# Altium footprint library CP2102-GM.PcbLib: 3 footprints
Each footprint in its own frame and in the unit in brackets; x right, y up, seen from the top. Pads: shape width x height; smd on the part's side, far side on the other; paste and mask are expansions set on the pad; w line width, h text height; cw(c..) or ccw(c..) is an arc to the next point about the centre after c.
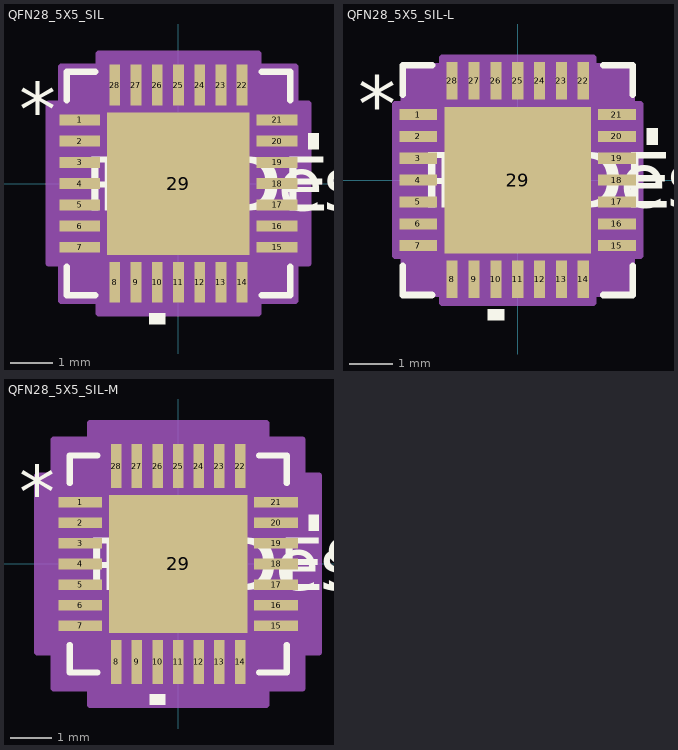
[diagram p0: the footprints below, top view; thin cyan lines are the x and y axes]

## QFN28_5X5_SIL [mm]
pads (29):
  rect 0.96x0.255 smd paste+0 mask+0: 1(-2.322,1.5) 2(-2.322,1) 3(-2.322,0.5) 4(-2.322,0) 5(-2.322,-0.5) 6(-2.322,-1) 7(-2.322,-1.5) 15(2.322,-1.5) 16(2.322,-1) 17(2.322,-0.5) 18(2.322,0) 19(2.322,0.5) 20(2.322,1) 21(2.322,1.5)
  rect 0.255x0.96 smd paste+0 mask+0: 8(-1.5,-2.322) 9(-1,-2.322) 10(-0.5,-2.322) 11(0,-2.322) 12(0.5,-2.322) 13(1,-2.322) 14(1.5,-2.322) 22(1.5,2.322) 23(1,2.322) 24(0.5,2.322) 25(0,2.322) 26(-0.5,2.322) 27(-1,2.322) 28(-1.5,2.322)
  rect 3.353x3.353 smd paste-1.676 mask+0: 29(0,0)
Top Overlay:
  region: -0.309,-3.056 -0.69,-3.056 -0.69,-3.31 -0.309,-3.31
  region: 3.056,1.191 3.31,1.191 3.31,0.81 3.056,0.81
  lines w0.152: -2.629,-1.96 -2.629,-2.629 -1.96,-2.629 ; -2.629,1.96 -2.629,2.629 -1.96,2.629 ; 1.96,-2.629 2.629,-2.629 2.629,-1.96 ; 1.96,2.629 2.629,2.629 2.629,1.96
  text "*" at -3.754,1.115 h1.27
  text "RefDes" at -1.905,-0.635 h1.27
  text "REFDES" at -2.222,-0.635 h1.27
Top Paste:
  region: -0.1,1.576 -1.576,1.576 -1.576,0.1 -0.1,0.1
  region: -0.1,-0.1 -1.576,-0.1 -1.576,-1.576 -0.1,-1.576
  region: 1.576,1.576 0.1,1.576 0.1,0.1 1.576,0.1
  region: 1.576,-0.1 0.1,-0.1 0.1,-1.576 1.576,-1.576
Mechanical 13:
  lines w0.025: -2.502,1.232 -1.232,2.502 ; -2.502,-2.502 2.502,-2.502 ; -2.502,-2.502 -2.502,2.502 ; -2.502,-2.502 -2.502,-2.502 ; -2.502,-1.652 -2.502,-1.348 ; -2.502,-1.652 -2.502,-1.348 ; -2.502,-1.652 -2.502,-1.652 ; -2.502,-1.348 -2.502,-1.348 ; -2.502,-1.152 -2.502,-0.848 ; -2.502,-1.152 -2.502,-0.848 ; -2.502,-1.152 -2.502,-1.152 ; -2.502,-0.848 -2.502,-0.848 ; -2.502,-0.652 -2.502,-0.348 ; -2.502,-0.652 -2.502,-0.348 ; -2.502,-0.652 -2.502,-0.652 ; -2.502,-0.348 -2.502,-0.348 ; -2.502,-0.152 -2.502,0.152 ; -2.502,-0.152 -2.502,0.152 ; -2.502,-0.152 -2.502,-0.152 ; -2.502,0.152 -2.502,0.152 ; -2.502,0.348 -2.502,0.652 ; -2.502,0.348 -2.502,0.652 ; -2.502,0.348 -2.502,0.348 ; -2.502,0.652 -2.502,0.652 ; -2.502,0.848 -2.502,1.152 ; -2.502,0.848 -2.502,1.152 ; -2.502,0.848 -2.502,0.848 ; -2.502,1.152 -2.502,1.152 ; -2.502,1.348 -2.502,1.652 ; -2.502,1.348 -2.502,1.652 ; -2.502,1.348 -2.502,1.348 ; -2.502,1.652 -2.502,1.652 ; -2.502,2.502 2.502,2.502 ; -2.502,2.502 -2.502,2.502 ; -1.652,-2.502 -1.348,-2.502 ; -1.652,-2.502 -1.652,-2.502 ; -1.652,-2.502 -1.348,-2.502 ; -1.652,2.502 -1.348,2.502 ; -1.652,2.502 -1.348,2.502 ; -1.652,2.502 -1.652,2.502 ; -1.348,-2.502 -1.348,-2.502 ; -1.348,2.502 -1.348,2.502 ; -1.152,-2.502 -0.848,-2.502 ; -1.152,-2.502 -1.152,-2.502 ; -1.152,-2.502 -0.848,-2.502 ; -1.152,2.502 -0.848,2.502 ; -1.152,2.502 -0.848,2.502 ; -1.152,2.502 -1.152,2.502 ; -0.848,-2.502 -0.848,-2.502 ; -0.848,2.502 -0.848,2.502 ; -0.652,-2.502 -0.348,-2.502 ; -0.652,-2.502 -0.652,-2.502 ; -0.652,-2.502 -0.348,-2.502 ; -0.652,2.502 -0.348,2.502 ; -0.652,2.502 -0.348,2.502 ; -0.652,2.502 -0.652,2.502 ; -0.348,-2.502 -0.348,-2.502 ; -0.348,2.502 -0.348,2.502 ; -0.152,-2.502 0.152,-2.502 ; -0.152,-2.502 -0.152,-2.502 ; -0.152,-2.502 0.152,-2.502 ; -0.152,2.502 0.152,2.502 ; -0.152,2.502 0.152,2.502 ; -0.152,2.502 -0.152,2.502 ; 0.152,-2.502 0.152,-2.502 ; 0.152,2.502 0.152,2.502 ; 0.348,-2.502 0.652,-2.502 ; 0.348,-2.502 0.348,-2.502 ; 0.348,-2.502 0.652,-2.502 ; 0.348,2.502 0.652,2.502 ; 0.348,2.502 0.652,2.502 ; 0.348,2.502 0.348,2.502 ; 0.652,-2.502 0.652,-2.502 ; 0.652,2.502 0.652,2.502 ; 0.848,-2.502 1.152,-2.502 ; 0.848,-2.502 0.848,-2.502 ; 0.848,-2.502 1.152,-2.502 ; 0.848,2.502 1.152,2.502 ; 0.848,2.502 1.152,2.502 ; 0.848,2.502 0.848,2.502 ; 1.152,-2.502 1.152,-2.502 ; 1.152,2.502 1.152,2.502 ; 1.348,-2.502 1.652,-2.502 ; 1.348,-2.502 1.348,-2.502 ; 1.348,-2.502 1.652,-2.502 ; 1.348,2.502 1.652,2.502 ; 1.348,2.502 1.652,2.502 ; 1.348,2.502 1.348,2.502 ; 1.652,-2.502 1.652,-2.502 ; 1.652,2.502 1.652,2.502 ; 2.502,-2.502 2.502,-2.502 ; 2.502,-2.502 2.502,2.502 ; 2.502,-1.652 2.502,-1.348 ; 2.502,-1.652 2.502,-1.652 ; 2.502,-1.652 2.502,-1.348 ; 2.502,-1.348 2.502,-1.348 ; 2.502,-1.152 2.502,-0.848 ; 2.502,-1.152 2.502,-1.152 ; 2.502,-1.152 2.502,-0.848 ; 2.502,-0.848 2.502,-0.848 ; 2.502,-0.652 2.502,-0.348 ; 2.502,-0.652 2.502,-0.652 ; 2.502,-0.652 2.502,-0.348 ; 2.502,-0.348 2.502,-0.348 ; 2.502,-0.152 2.502,0.152 ; 2.502,-0.152 2.502,-0.152 ; 2.502,-0.152 2.502,0.152 ; 2.502,0.152 2.502,0.152 ; 2.502,0.348 2.502,0.652 ; 2.502,0.348 2.502,0.348 ; 2.502,0.348 2.502,0.652 ; 2.502,0.652 2.502,0.652 ; 2.502,0.848 2.502,1.152 ; 2.502,0.848 2.502,0.848 ; 2.502,0.848 2.502,1.152 ; 2.502,1.152 2.502,1.152 ; 2.502,1.348 2.502,1.652 ; 2.502,1.348 2.502,1.348 ; 2.502,1.348 2.502,1.652 ; 2.502,1.652 2.502,1.652 ; 2.502,2.502 2.502,2.502
  text "*" at -2.159,1.115 h1.27
  text "RefDes2" at -2.222,-0.635 h1.27
Mechanical 15:
  region: -1.881,-2.756 -2.756,-2.756 -2.756,-1.881 -3.056,-1.881 -3.056,1.881 -2.756,1.881 -2.756,2.756 -1.881,2.756 -1.881,3.056 1.881,3.056 1.881,2.756 2.756,2.756 2.756,1.881 3.056,1.881 3.056,-1.881 2.756,-1.881 2.756,-2.756 1.881,-2.756 1.881,-3.056 -1.881,-3.056
  lines w0.152: -3.056,-1.881 -2.756,-1.881 -2.756,-2.756 -1.881,-2.756 -1.881,-3.056 1.881,-3.056 1.881,-2.756 2.756,-2.756 2.756,-1.881 3.056,-1.881 3.056,1.881 2.756,1.881 2.756,2.756 1.881,2.756 1.881,3.056 -1.881,3.056 -1.881,2.756 -2.756,2.756 -2.756,1.881 -3.056,1.881 -3.056,-1.881
3D body "QFN28_5X5_SIL.step": height 0.99, standoff 0, extent -2.502,-2.502 2.502,2.502

## QFN28_5X5_SIL-L [mm]
pads (29):
  rect 0.86x0.255 smd paste+0 mask+0: 1(-2.272,1.5) 2(-2.272,1) 3(-2.272,0.5) 4(-2.272,0) 5(-2.272,-0.5) 6(-2.272,-1) 7(-2.272,-1.5) 15(2.272,-1.5) 16(2.272,-1) 17(2.272,-0.5) 18(2.272,0) 19(2.272,0.5) 20(2.272,1) 21(2.272,1.5)
  rect 0.255x0.86 smd paste+0 mask+0: 8(-1.5,-2.272) 9(-1,-2.272) 10(-0.5,-2.272) 11(0,-2.272) 12(0.5,-2.272) 13(1,-2.272) 14(1.5,-2.272) 22(1.5,2.272) 23(1,2.272) 24(0.5,2.272) 25(0,2.272) 26(-0.5,2.272) 27(-1,2.272) 28(-1.5,2.272)
  rect 3.353x3.353 smd paste-1.676 mask+0: 29(0,0)
Top Overlay:
  region: -0.309,-2.956 -0.69,-2.956 -0.69,-3.21 -0.309,-3.21
  region: 2.956,1.191 3.21,1.191 3.21,0.81 2.956,0.81
  lines w0.152: -2.629,-1.96 -2.629,-2.629 -1.96,-2.629 ; -2.629,1.96 -2.629,2.629 -1.96,2.629 ; 1.96,-2.629 2.629,-2.629 2.629,-1.96 ; 1.96,2.629 2.629,2.629 2.629,1.96
  text "*" at -3.654,1.115 h1.27
  text "RefDes" at -1.905,-0.635 h1.27
  text "REFDES" at -2.222,-0.635 h1.27
Top Paste:
  region: -0.1,1.576 -1.576,1.576 -1.576,0.1 -0.1,0.1
  region: -0.1,-0.1 -1.576,-0.1 -1.576,-1.576 -0.1,-1.576
  region: 1.576,1.576 0.1,1.576 0.1,0.1 1.576,0.1
  region: 1.576,-0.1 0.1,-0.1 0.1,-1.576 1.576,-1.576
Mechanical 13:
  lines w0.025: -2.502,1.232 -1.232,2.502 ; -2.502,-2.502 2.502,-2.502 ; -2.502,-2.502 -2.502,2.502 ; -2.502,-2.502 -2.502,-2.502 ; -2.502,-1.652 -2.502,-1.348 ; -2.502,-1.652 -2.502,-1.348 ; -2.502,-1.652 -2.502,-1.652 ; -2.502,-1.348 -2.502,-1.348 ; -2.502,-1.152 -2.502,-0.848 ; -2.502,-1.152 -2.502,-0.848 ; -2.502,-1.152 -2.502,-1.152 ; -2.502,-0.848 -2.502,-0.848 ; -2.502,-0.652 -2.502,-0.348 ; -2.502,-0.652 -2.502,-0.348 ; -2.502,-0.652 -2.502,-0.652 ; -2.502,-0.348 -2.502,-0.348 ; -2.502,-0.152 -2.502,0.152 ; -2.502,-0.152 -2.502,0.152 ; -2.502,-0.152 -2.502,-0.152 ; -2.502,0.152 -2.502,0.152 ; -2.502,0.348 -2.502,0.652 ; -2.502,0.348 -2.502,0.652 ; -2.502,0.348 -2.502,0.348 ; -2.502,0.652 -2.502,0.652 ; -2.502,0.848 -2.502,1.152 ; -2.502,0.848 -2.502,1.152 ; -2.502,0.848 -2.502,0.848 ; -2.502,1.152 -2.502,1.152 ; -2.502,1.348 -2.502,1.652 ; -2.502,1.348 -2.502,1.652 ; -2.502,1.348 -2.502,1.348 ; -2.502,1.652 -2.502,1.652 ; -2.502,2.502 2.502,2.502 ; -2.502,2.502 -2.502,2.502 ; -1.652,-2.502 -1.348,-2.502 ; -1.652,-2.502 -1.652,-2.502 ; -1.652,-2.502 -1.348,-2.502 ; -1.652,2.502 -1.348,2.502 ; -1.652,2.502 -1.348,2.502 ; -1.652,2.502 -1.652,2.502 ; -1.348,-2.502 -1.348,-2.502 ; -1.348,2.502 -1.348,2.502 ; -1.152,-2.502 -0.848,-2.502 ; -1.152,-2.502 -1.152,-2.502 ; -1.152,-2.502 -0.848,-2.502 ; -1.152,2.502 -0.848,2.502 ; -1.152,2.502 -0.848,2.502 ; -1.152,2.502 -1.152,2.502 ; -0.848,-2.502 -0.848,-2.502 ; -0.848,2.502 -0.848,2.502 ; -0.652,-2.502 -0.348,-2.502 ; -0.652,-2.502 -0.652,-2.502 ; -0.652,-2.502 -0.348,-2.502 ; -0.652,2.502 -0.348,2.502 ; -0.652,2.502 -0.348,2.502 ; -0.652,2.502 -0.652,2.502 ; -0.348,-2.502 -0.348,-2.502 ; -0.348,2.502 -0.348,2.502 ; -0.152,-2.502 0.152,-2.502 ; -0.152,-2.502 -0.152,-2.502 ; -0.152,-2.502 0.152,-2.502 ; -0.152,2.502 0.152,2.502 ; -0.152,2.502 0.152,2.502 ; -0.152,2.502 -0.152,2.502 ; 0.152,-2.502 0.152,-2.502 ; 0.152,2.502 0.152,2.502 ; 0.348,-2.502 0.652,-2.502 ; 0.348,-2.502 0.348,-2.502 ; 0.348,-2.502 0.652,-2.502 ; 0.348,2.502 0.652,2.502 ; 0.348,2.502 0.652,2.502 ; 0.348,2.502 0.348,2.502 ; 0.652,-2.502 0.652,-2.502 ; 0.652,2.502 0.652,2.502 ; 0.848,-2.502 1.152,-2.502 ; 0.848,-2.502 0.848,-2.502 ; 0.848,-2.502 1.152,-2.502 ; 0.848,2.502 1.152,2.502 ; 0.848,2.502 1.152,2.502 ; 0.848,2.502 0.848,2.502 ; 1.152,-2.502 1.152,-2.502 ; 1.152,2.502 1.152,2.502 ; 1.348,-2.502 1.652,-2.502 ; 1.348,-2.502 1.348,-2.502 ; 1.348,-2.502 1.652,-2.502 ; 1.348,2.502 1.652,2.502 ; 1.348,2.502 1.652,2.502 ; 1.348,2.502 1.348,2.502 ; 1.652,-2.502 1.652,-2.502 ; 1.652,2.502 1.652,2.502 ; 2.502,-2.502 2.502,-2.502 ; 2.502,-2.502 2.502,2.502 ; 2.502,-1.652 2.502,-1.348 ; 2.502,-1.652 2.502,-1.652 ; 2.502,-1.652 2.502,-1.348 ; 2.502,-1.348 2.502,-1.348 ; 2.502,-1.152 2.502,-0.848 ; 2.502,-1.152 2.502,-1.152 ; 2.502,-1.152 2.502,-0.848 ; 2.502,-0.848 2.502,-0.848 ; 2.502,-0.652 2.502,-0.348 ; 2.502,-0.652 2.502,-0.652 ; 2.502,-0.652 2.502,-0.348 ; 2.502,-0.348 2.502,-0.348 ; 2.502,-0.152 2.502,0.152 ; 2.502,-0.152 2.502,-0.152 ; 2.502,-0.152 2.502,0.152 ; 2.502,0.152 2.502,0.152 ; 2.502,0.348 2.502,0.652 ; 2.502,0.348 2.502,0.348 ; 2.502,0.348 2.502,0.652 ; 2.502,0.652 2.502,0.652 ; 2.502,0.848 2.502,1.152 ; 2.502,0.848 2.502,0.848 ; 2.502,0.848 2.502,1.152 ; 2.502,1.152 2.502,1.152 ; 2.502,1.348 2.502,1.652 ; 2.502,1.348 2.502,1.348 ; 2.502,1.348 2.502,1.652 ; 2.502,1.652 2.502,1.652 ; 2.502,2.502 2.502,2.502
  text "*" at -2.159,1.115 h1.27
  text "RefDes2" at -2.222,-0.635 h1.27
Mechanical 15:
  region: -1.729,-2.603 -2.603,-2.603 -2.603,-1.729 -2.803,-1.729 -2.803,1.729 -2.603,1.729 -2.603,2.603 -1.729,2.603 -1.729,2.803 1.729,2.803 1.729,2.603 2.603,2.603 2.603,1.729 2.803,1.729 2.803,-1.729 2.603,-1.729 2.603,-2.603 1.729,-2.603 1.729,-2.803 -1.729,-2.803
  lines w0.152: -2.803,-1.729 -2.603,-1.729 -2.603,-2.603 -1.729,-2.603 -1.729,-2.803 1.729,-2.803 1.729,-2.603 2.603,-2.603 2.603,-1.729 2.803,-1.729 2.803,1.729 2.603,1.729 2.603,2.603 1.729,2.603 1.729,2.803 -1.729,2.803 -1.729,2.603 -2.603,2.603 -2.603,1.729 -2.803,1.729 -2.803,-1.729
3D body "QFN28_5X5_SIL.step": height 0.99, standoff 0, extent -2.502,-2.502 2.502,2.502

## QFN28_5X5_SIL-M [mm]
pads (29):
  rect 1.06x0.255 smd paste+0 mask+0: 1(-2.372,1.5) 2(-2.372,1) 3(-2.372,0.5) 4(-2.372,0) 5(-2.372,-0.5) 6(-2.372,-1) 7(-2.372,-1.5) 15(2.372,-1.5) 16(2.372,-1) 17(2.372,-0.5) 18(2.372,0) 19(2.372,0.5) 20(2.372,1) 21(2.372,1.5)
  rect 0.255x1.06 smd paste+0 mask+0: 8(-1.5,-2.372) 9(-1,-2.372) 10(-0.5,-2.372) 11(0,-2.372) 12(0.5,-2.372) 13(1,-2.372) 14(1.5,-2.372) 22(1.5,2.372) 23(1,2.372) 24(0.5,2.372) 25(0,2.372) 26(-0.5,2.372) 27(-1,2.372) 28(-1.5,2.372)
  rect 3.353x3.353 smd paste-1.676 mask+0: 29(0,0)
Top Overlay:
  region: -0.309,-3.156 -0.69,-3.156 -0.69,-3.41 -0.309,-3.41
  region: 3.156,1.191 3.41,1.191 3.41,0.81 3.156,0.81
  lines w0.152: -2.629,-1.96 -2.629,-2.629 -1.96,-2.629 ; -2.629,1.96 -2.629,2.629 -1.96,2.629 ; 1.96,-2.629 2.629,-2.629 2.629,-1.96 ; 1.96,2.629 2.629,2.629 2.629,1.96
  text "*" at -3.854,1.115 h1.27
  text "RefDes" at -1.905,-0.635 h1.27
  text "REFDES" at -2.222,-0.635 h1.27
Top Paste:
  region: -0.1,1.576 -1.576,1.576 -1.576,0.1 -0.1,0.1
  region: -0.1,-0.1 -1.576,-0.1 -1.576,-1.576 -0.1,-1.576
  region: 1.576,1.576 0.1,1.576 0.1,0.1 1.576,0.1
  region: 1.576,-0.1 0.1,-0.1 0.1,-1.576 1.576,-1.576
Mechanical 13:
  lines w0.025: -2.502,1.232 -1.232,2.502 ; -2.502,-2.502 2.502,-2.502 ; -2.502,-2.502 -2.502,2.502 ; -2.502,-2.502 -2.502,-2.502 ; -2.502,-1.652 -2.502,-1.348 ; -2.502,-1.652 -2.502,-1.348 ; -2.502,-1.652 -2.502,-1.652 ; -2.502,-1.348 -2.502,-1.348 ; -2.502,-1.152 -2.502,-0.848 ; -2.502,-1.152 -2.502,-0.848 ; -2.502,-1.152 -2.502,-1.152 ; -2.502,-0.848 -2.502,-0.848 ; -2.502,-0.652 -2.502,-0.348 ; -2.502,-0.652 -2.502,-0.348 ; -2.502,-0.652 -2.502,-0.652 ; -2.502,-0.348 -2.502,-0.348 ; -2.502,-0.152 -2.502,0.152 ; -2.502,-0.152 -2.502,0.152 ; -2.502,-0.152 -2.502,-0.152 ; -2.502,0.152 -2.502,0.152 ; -2.502,0.348 -2.502,0.652 ; -2.502,0.348 -2.502,0.652 ; -2.502,0.348 -2.502,0.348 ; -2.502,0.652 -2.502,0.652 ; -2.502,0.848 -2.502,1.152 ; -2.502,0.848 -2.502,1.152 ; -2.502,0.848 -2.502,0.848 ; -2.502,1.152 -2.502,1.152 ; -2.502,1.348 -2.502,1.652 ; -2.502,1.348 -2.502,1.652 ; -2.502,1.348 -2.502,1.348 ; -2.502,1.652 -2.502,1.652 ; -2.502,2.502 2.502,2.502 ; -2.502,2.502 -2.502,2.502 ; -1.652,-2.502 -1.348,-2.502 ; -1.652,-2.502 -1.652,-2.502 ; -1.652,-2.502 -1.348,-2.502 ; -1.652,2.502 -1.348,2.502 ; -1.652,2.502 -1.348,2.502 ; -1.652,2.502 -1.652,2.502 ; -1.348,-2.502 -1.348,-2.502 ; -1.348,2.502 -1.348,2.502 ; -1.152,-2.502 -0.848,-2.502 ; -1.152,-2.502 -1.152,-2.502 ; -1.152,-2.502 -0.848,-2.502 ; -1.152,2.502 -0.848,2.502 ; -1.152,2.502 -0.848,2.502 ; -1.152,2.502 -1.152,2.502 ; -0.848,-2.502 -0.848,-2.502 ; -0.848,2.502 -0.848,2.502 ; -0.652,-2.502 -0.348,-2.502 ; -0.652,-2.502 -0.652,-2.502 ; -0.652,-2.502 -0.348,-2.502 ; -0.652,2.502 -0.348,2.502 ; -0.652,2.502 -0.348,2.502 ; -0.652,2.502 -0.652,2.502 ; -0.348,-2.502 -0.348,-2.502 ; -0.348,2.502 -0.348,2.502 ; -0.152,-2.502 0.152,-2.502 ; -0.152,-2.502 -0.152,-2.502 ; -0.152,-2.502 0.152,-2.502 ; -0.152,2.502 0.152,2.502 ; -0.152,2.502 0.152,2.502 ; -0.152,2.502 -0.152,2.502 ; 0.152,-2.502 0.152,-2.502 ; 0.152,2.502 0.152,2.502 ; 0.348,-2.502 0.652,-2.502 ; 0.348,-2.502 0.348,-2.502 ; 0.348,-2.502 0.652,-2.502 ; 0.348,2.502 0.652,2.502 ; 0.348,2.502 0.652,2.502 ; 0.348,2.502 0.348,2.502 ; 0.652,-2.502 0.652,-2.502 ; 0.652,2.502 0.652,2.502 ; 0.848,-2.502 1.152,-2.502 ; 0.848,-2.502 0.848,-2.502 ; 0.848,-2.502 1.152,-2.502 ; 0.848,2.502 1.152,2.502 ; 0.848,2.502 1.152,2.502 ; 0.848,2.502 0.848,2.502 ; 1.152,-2.502 1.152,-2.502 ; 1.152,2.502 1.152,2.502 ; 1.348,-2.502 1.652,-2.502 ; 1.348,-2.502 1.348,-2.502 ; 1.348,-2.502 1.652,-2.502 ; 1.348,2.502 1.652,2.502 ; 1.348,2.502 1.652,2.502 ; 1.348,2.502 1.348,2.502 ; 1.652,-2.502 1.652,-2.502 ; 1.652,2.502 1.652,2.502 ; 2.502,-2.502 2.502,-2.502 ; 2.502,-2.502 2.502,2.502 ; 2.502,-1.652 2.502,-1.348 ; 2.502,-1.652 2.502,-1.652 ; 2.502,-1.652 2.502,-1.348 ; 2.502,-1.348 2.502,-1.348 ; 2.502,-1.152 2.502,-0.848 ; 2.502,-1.152 2.502,-1.152 ; 2.502,-1.152 2.502,-0.848 ; 2.502,-0.848 2.502,-0.848 ; 2.502,-0.652 2.502,-0.348 ; 2.502,-0.652 2.502,-0.652 ; 2.502,-0.652 2.502,-0.348 ; 2.502,-0.348 2.502,-0.348 ; 2.502,-0.152 2.502,0.152 ; 2.502,-0.152 2.502,-0.152 ; 2.502,-0.152 2.502,0.152 ; 2.502,0.152 2.502,0.152 ; 2.502,0.348 2.502,0.652 ; 2.502,0.348 2.502,0.348 ; 2.502,0.348 2.502,0.652 ; 2.502,0.652 2.502,0.652 ; 2.502,0.848 2.502,1.152 ; 2.502,0.848 2.502,0.848 ; 2.502,0.848 2.502,1.152 ; 2.502,1.152 2.502,1.152 ; 2.502,1.348 2.502,1.652 ; 2.502,1.348 2.502,1.348 ; 2.502,1.348 2.502,1.652 ; 2.502,1.652 2.502,1.652 ; 2.502,2.502 2.502,2.502
  text "*" at -2.159,1.115 h1.27
  text "RefDes2" at -2.222,-0.635 h1.27
Mechanical 15:
  region: -2.135,-3.01 -3.01,-3.01 -3.01,-2.135 -3.41,-2.135 -3.41,2.135 -3.01,2.135 -3.01,3.01 -2.135,3.01 -2.135,3.41 2.135,3.41 2.135,3.01 3.01,3.01 3.01,2.135 3.41,2.135 3.41,-2.135 3.01,-2.135 3.01,-3.01 2.135,-3.01 2.135,-3.41 -2.135,-3.41
  lines w0.152: -3.41,-2.135 -3.01,-2.135 -3.01,-3.01 -2.135,-3.01 -2.135,-3.41 2.135,-3.41 2.135,-3.01 3.01,-3.01 3.01,-2.135 3.41,-2.135 3.41,2.135 3.01,2.135 3.01,3.01 2.135,3.01 2.135,3.41 -2.135,3.41 -2.135,3.01 -3.01,3.01 -3.01,2.135 -3.41,2.135 -3.41,-2.135
3D body "QFN28_5X5_SIL.step": height 0.99, standoff 0, extent -2.502,-2.502 2.502,2.502